# Altium integrated library IV-11_Clock.IntLib: 34 symbols
Pins are listed as number, name and electrical type; pins without a type are passive.

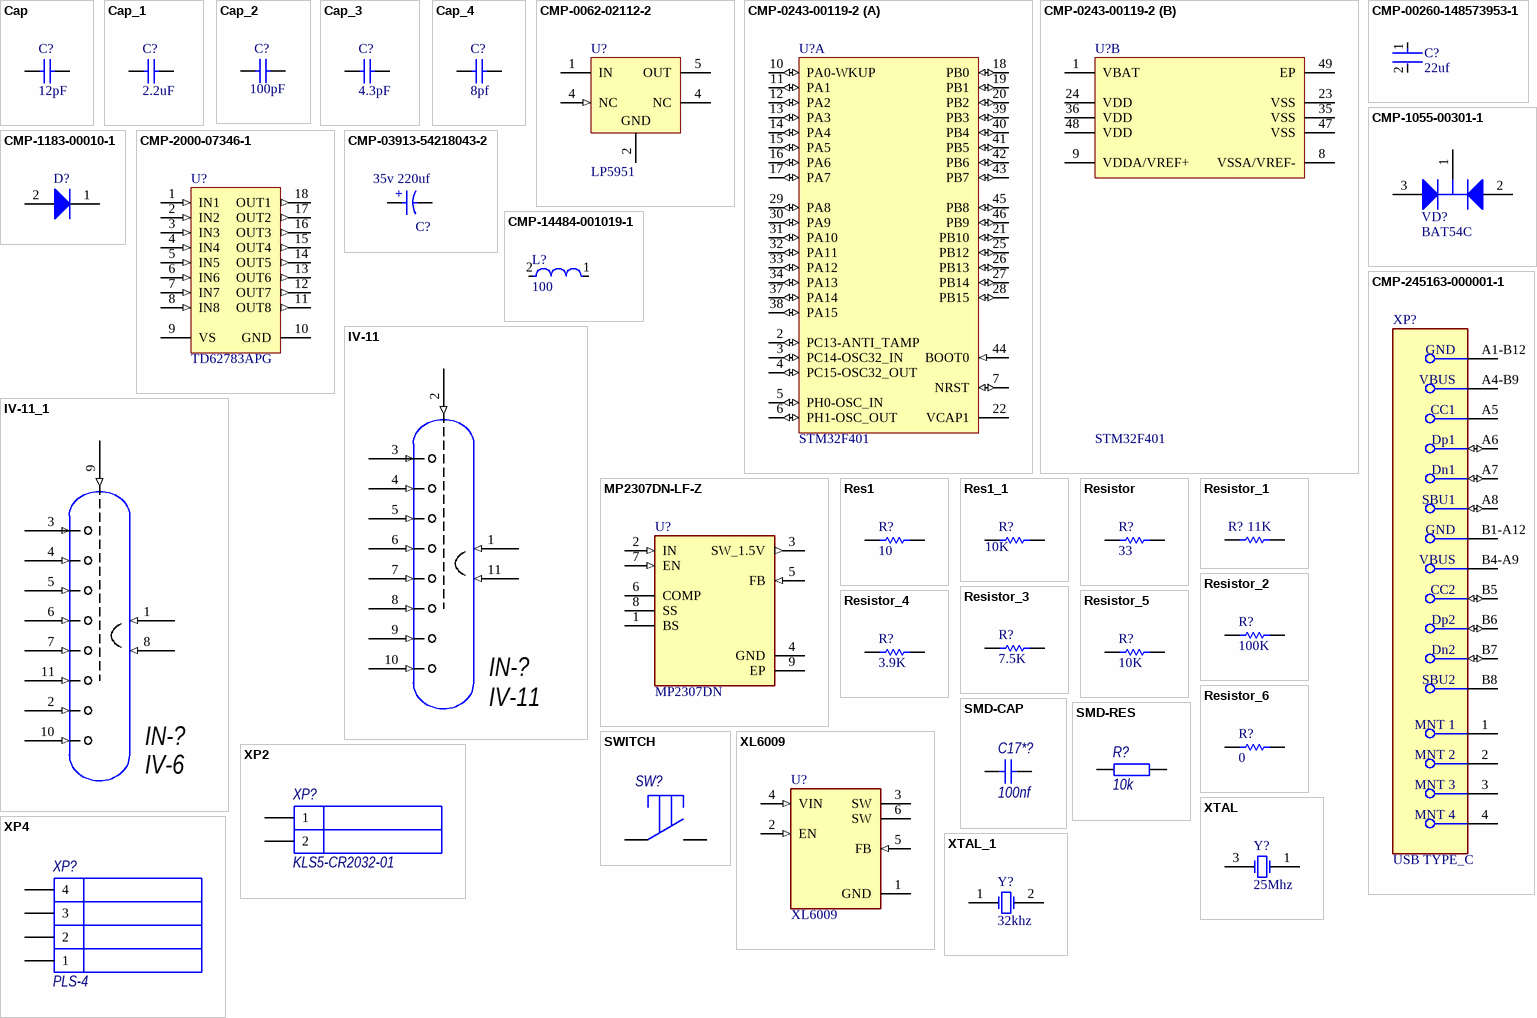
[diagram p0: symbols Cap to XTAL_1]

## Cap
designator C?, comment 12pf
Capacitor; Published: 8-Jun-2000; LatestRevisionDate: 17-Jul-2002; LatestRevisionNote: Re-released for DXP Platform.; PackageReference: RAD-0.3; Publisher: Altium Limited; PackageDescription: Radial Cap, Thru-Hole; 2 Leads; 0.3 in Pin Spacing; Value: 12pF
footprint RAD-0.3 (Radial Cap, Thru-Hole; 2 Leads; 0.3 in Pin Spacing)
simulation model CAP (Capacitor)
signal-integrity model Cap
footprint FP-C0402-BB-MFG
pins: 1, 2

## Cap_1
designator C?, comment 2.2uf
Capacitor; Published: 8-Jun-2000; LatestRevisionDate: 17-Jul-2002; LatestRevisionNote: Re-released for DXP Platform.; PackageReference: RAD-0.3; Publisher: Altium Limited; PackageDescription: Radial Cap, Thru-Hole; 2 Leads; 0.3 in Pin Spacing; Value: 2.2uF
footprint RAD-0.3 (Radial Cap, Thru-Hole; 2 Leads; 0.3 in Pin Spacing)
simulation model CAP (Capacitor)
signal-integrity model Cap
footprint FP-C0402-BB-MFG
pins: 1, 2

## Cap_2
designator C?, comment value 100pF  (hidden comment: 100nf)
Capacitor; Published: 8-Jun-2000; LatestRevisionDate: 17-Jul-2002; LatestRevisionNote: Re-released for DXP Platform.; PackageReference: RAD-0.3; Publisher: Altium Limited; PackageDescription: Radial Cap, Thru-Hole; 2 Leads; 0.3 in Pin Spacing
footprint RAD-0.3 (Radial Cap, Thru-Hole; 2 Leads; 0.3 in Pin Spacing)
simulation model CAP (Capacitor)
signal-integrity model Cap
footprint FP-C0402-BB-MFG
pins: 1, 2

## Cap_3
designator C?, comment value 4.3pF  (hidden comment: 8pf)
Capacitor; Published: 8-Jun-2000; LatestRevisionDate: 17-Jul-2002; LatestRevisionNote: Re-released for DXP Platform.; PackageReference: RAD-0.3; Publisher: Altium Limited; PackageDescription: Radial Cap, Thru-Hole; 2 Leads; 0.3 in Pin Spacing
footprint RAD-0.3 (Radial Cap, Thru-Hole; 2 Leads; 0.3 in Pin Spacing)
simulation model CAP (Capacitor)
signal-integrity model Cap
footprint FP-C0402-BB-MFG
pins: 1, 2

## Cap_4
designator C?, comment 8pf
Capacitor; Published: 8-Jun-2000; LatestRevisionDate: 17-Jul-2002; LatestRevisionNote: Re-released for DXP Platform.; PackageReference: RAD-0.3; Publisher: Altium Limited; PackageDescription: Radial Cap, Thru-Hole; 2 Leads; 0.3 in Pin Spacing
footprint RAD-0.3 (Radial Cap, Thru-Hole; 2 Leads; 0.3 in Pin Spacing)
simulation model CAP (Capacitor)
signal-integrity model Cap
footprint FP-C0402-BB-MFG
pins: 1, 2

## CMP-0062-02112-2
designator U?, comment LP5951
Micropower, 150mA Low-Dropout CMOS Voltage Regulator, 5-pin SOT-23; Manufacturer: National Semiconductor; PackageTopMarking: LKHB*XTT; PowerWise: N; CompType: LDO IC; PackageVersion: revD, Aug-2008; RoHS: N; PinCount: 5; ComponentLink2Description: LP5951 Web Page; DatasheetVersion: Jan-2011; ComponentLink3Description: MF05A Package Page; ComponentLink1URL: http://www.national.com/ds/LP/LP5951.pdf; PackageDescription: Molded SOT-23, .115 x .063 x .040 in Body, 5 Lead, .0375 in Pitch; ComponentLink2URL: http://www.national.com/pf/LP/LP5951.html; ComponentLink1Description: LP5951 Datasheet; PackageReference: MF05A; RevisionNote: Component URLs added; ComponentLink3URL: http://www.national.com/packaging/folders/mf05a.html
footprint MF05A_N (SOT23, 5-Leads, Body 2.9x1.6mm, Pitch 0.95mm, Lead Span 2.8mm, IPC Medium Density)
footprint MF05A_M (SOT23, 5-Leads, Body 2.9x1.6mm, Pitch 0.95mm, Lead Span 2.8mm, IPC Low Density)
footprint MF05A_L (SOT23, 5-Leads, Body 2.9x1.6mm, Pitch 0.95mm, Lead Span 2.8mm, IPC High Density)
footprint FP-SOT23-5LD-PL-1-IPC_A
pins: 1 IN (power), 2 GND (power), 4 NC (in), 4 NC, 5 OUT (power)

## CMP-0243-00119-2
designator U?, comment STM32F401
ARM Cortex-M4 32-bit MCU+FPU, 105 DMIPS, 256 kB Flash, 64 kB Internal RAM, 36 I/Os, 48-pin UFQFPN, -40 to 85 degC, Tray; Manufacturer: STMicroelectronics; PartNumber: STM32F401CCU6; Supply Voltage(Vcc) max (V): 3.6; I/Os (High Current): 36; Internal RAM Size (kB): 64; Operating Frequency(F) (Processor speed) (MHz): 84; FLASH Size (Prog) (kB): 256; Supply Voltage(Vcc) min (V): 1.8; Packing: Tray; PackageReference: UFQFPN48; PackageVersion: Rev. 1, 04/2013; Core: ARM Cortex-M4; ComponentLink1Description: Manufacturer URL; ComponentLink3Description: Package Specification; PackageDescription: 48-Pin Ultra Thin Fine Pitch Quad Flat No-Lead, 7 x 7 x 0.6 mm Body, 0.5 mm Pitch, Exposed Pad; Mounting Technology: Surface Mount; ComponentLink2URL: http://www.st.com/st-web-ui/static/active/en/resource/technical/document/data_brief/DM00071938.pdf; DatasheetVersion: Rev. 1; ComponentLink2Description: Datasheet; ComponentLink1URL: http://www.st.com/web/en/home.html; ComponentLink3URL: http://www.st.com/st-web-ui/static/active/en/resource/technical/document/data_brief/DM00071938.pdf
footprint STM-UFQFPN48_N (QFN, 48-Leads, Body 7.1x7.1mm, Pitch 0.5mm, Thermal Pad 5.6x5.6mm, IPC Medium Density)
footprint STM-UFQFPN48_L (QFN, 48-Leads, Body 7.1x7.1mm, Pitch 0.5mm, Thermal Pad 5.6x5.6mm, IPC High Density)
footprint STM-UFQFPN48_M (QFN, 48-Leads, Body 7.1x7.1mm, Pitch 0.5mm, Thermal Pad 5.6x5.6mm, IPC Low Density)
part A pins: 2 PC13-ANTI_TAMP (io) "PC13-ANTI_TAMP/TAMP_1", 3 PC14-OSC32_IN (io) "PC14-OSC32_IN/OSC32_IN", 4 PC15-OSC32_OUT (io) "PC15-OSC32_OUT/OSC32_OUT", 5 PH0-OSC_IN (io) "PH0-OSC_IN/OSC_IN", 6 PH1-OSC_OUT (io) "PH1-OSC_OUT/OSC_OUT", 7 NRST (io), 10 PA0-WKUP (io) "PA0-WKUP/USART2_CTS,TIM2_CH1/TIM2_ETR,TIM5_CH1/ADC1_0,WKUP", 11 PA1 (io) "PA1/USART2_RTS,TIM2_CH2,TIM5_CH2/ADC1_1", 12 PA2 (io) "PA2/USART2_TX,TIM2_CH3,TIM5_CH3,TIM9_CH1/ADC1_2", 13 PA3 (io) "PA3/USART2_RX,TIM2_CH4,TIM5_CH4,TIM9_CH2/ADC1_3", 14 PA4 (io) "PA4/SPI1_NSS,SPI3_NSS/I2S3_WS,USART2_CK/ADC1_4", 15 PA5 (io) "PA5/SPI1_SCK,TIM2_CH1/TIM2_ETR/ADC1_5", 16 PA6 (io) "PA6/SPI1_MISO,TIM1_BKIN,TIM3_CH1/ADC1_6", 17 PA7 (io) "PA7/SPI1_MOSI,TIM1_CH1N,TIM3_CH2/ADC1_7", 18 PB0 (io) "PB0/TIM1_CH2N,TIM3_CH3/ADC1_8", 19 PB1 (io) "PB1/TIM1_CH3N,TIM3_CH4/ADC1_9", 20 PB2 (io), 21 PB10 (io) "PB10/SPI2_SCK/I2S2_CK,I2C2_SCL,TIM2_CH3", 22 VCAP1 (power), 25 PB12 (io) "PB12/SPI2_NSS/I2S2_WS,I2C2_SMBAL,TIM1_BKIN", 26 PB13 (io) "PB13/SPI2_SCK/I2S2_CK,TIM1_CH1N", 27 PB14 (io) "PB14/SPI2_MISO,I2S2ext_SD,TIM1_CH2N", 28 PB15 (io) "PB15/SPI2_MOSI/I2S2_SD,TIM1_CH3N,RTC_50Hz", 29 PA8 (io) "PA8/I2C3_SCL,USART1_CK,TIM1_CH1,USB_FS_SOF,MCO_1", 30 PA9 (io) "PA9/I2C3_SMBAL,USART1_TX,TIM1_CH2,USB_FS_VBUS", 31 PA10 (io) "PA10/USART1_RX,TIM1_CH3,USB_FS_ID", 32 PA11 (io) "PA11/USART1_CTS,USART6_TX,TIM1_CH4,USB_FS_DM", 33 PA12 (io) "PA12/USART1_RTS,USART6_RX,TIM1_ETR,USB_FS_DP", 34 PA13 (io) "PA13/JTMS-SWDIO", 37 PA14 (io) "PA14/JTCK-SWCLK", 38 PA15 (io) "PA15/SPI1_NSS,SPI3_NSS/I2S3_WS,TIM2_CH1/TIM2_ETR,JTDI", 39 PB3 (io) "PB3/SPI1_SCK,SPI3_SCK/I2S3_CK,I2C2_SDA,TIM2_CH2,JTDO-SWO", 40 PB4 (io) "PB4/SPI1_MISO,SPI3_MISO,I2S3ext_SD,I2C3_SDA,TIM3_CH1,JTRST", 41 PB5 (io) "PB5/SPI1_MOSI,SPI3_MOSI/I2S3_SD,I2C1_SMBAL,TIM3_CH2", 42 PB6 (io) "PB6/I2C1_SCL,USART1_TX,TIM4_CH1", 43 PB7 (io) "PB7/I2C1_SDA,USART1_RX,TIM4_CH2", 44 BOOT0 (in), 45 PB8 (io) "PB8/I2C1_SCL,TIM4_CH3,TIM10_CH1,SDIO_D4", 46 PB9 (io) "PB9/SPI2_NSS/I2S2_WS,I2C1_SDA,TIM4_CH4,TIM11_CH1,SDIO_D5"
part B pins: 1 VBAT (power), 8 VSSA/VREF- (power), 9 VDDA/VREF+ (power), 23 VSS (power), 24 VDD (power), 35 VSS (power), 36 VDD (power), 47 VSS (power), 48 VDD (power), 49 EP (power)

## CMP-00260-148573953-1
designator C?, comment 22uf
GRM32ED70E227ME01L Grm 1210 X7T 220UF 2.5V 20%; NexarPartId: 148573953; Capacitance: 220µF; Material: Ceramic; Max Operating Temperature: 125°C; Width: 2.5mm; Voltage Rating (DC): 2.5V; Height: 2.85mm; Lifecycle Status: Production; Case/Package: 1210; Tolerance: 20%; Dielectric: X7T; Min Operating Temperature: -55°C; Voltage Rating: 2.5V; Thickness: 2.5mm; Length: 3.2mm
footprint FP-GRM32E-0_35-MFG (Grm 1210 X7T 220UF 2.5V 20%)
footprint FP-GRM32E-0_35-IPC_A (Grm 1210 X7T 220UF 2.5V 20%)
footprint FP-GRM32E-0_35-IPC_B (Grm 1210 X7T 220UF 2.5V 20%)
footprint FP-GRM32E-0_35-IPC_C (Grm 1210 X7T 220UF 2.5V 20%)
footprint FP-C0402-BB-MFG
pins: 1, 2

## CMP-1055-00301-1
designator VD?, comment BAT54C
Dual Series Cathode Schottky Barrier Diodes, 3-Pin SC-89, Pb-Free, Tape and Reel; Manufacturer: On Semiconductor; PartNumber: BAT54CXV3T1G; trr Max (ns): 5; IFSM Max (A): 0.6; Configuration: Common Cathode; ComponentLink3Description: Package Specification; ComponentLink2Description: Datasheet; ComponentLink3URL: http://www.onsemi.com/pub_link/Collateral/463C-02.PDF; Mounting Technology: Surface Mount; DatasheetVersion: Rev. 2; PackageVersion: Rev. C, 07/2003; RoHS: TRUE; PackageReference: SC-89-3-463C-02; ComponentLink2URL: http://www.onsemi.cn/pub_link/Collateral/BAT54CXV3-D.PDF; ComponentLink1URL: http://www.onsemi.com/; PackageDescription: 3-Pin Small Outline Transistor, Body 1.6 x 0.85 mm, Pitch 0.5 mm; ComponentLink1Description: Manufacturer URL; Packing: Tape and Reel
footprint ONSC-SC-89-3-463C-02_V (SOT23, 3-Leads, Body 1.6x0.85mm, Pitch 0.5mm)
footprint NXP-SOT23-3_V
pins: 1 A1, 2 A2, 3 K

## CMP-1183-00010-1
designator D?, comment Comment  (value not drawn)
Low VF Schottky Diode, -55 to 150 degC, TSLP-2-17, Green; Manufacturer: Infineon; PartNumber: BAS3005S-02LRH; CT (max): 15Â pF; IF (max): 0.5Â A; VR (max): 30Â V; Green: TRUE; Configuration: Single; VF (max): 500Â mV; ComponentLink1Description: Manufacturer URL; Halogen-free: TRUE; ComponentLink1URL: http://www.infineon.com/; ComponentLink3Description: Package Specification; ComponentLink3URL: http://www.infineon.com/dgdl/TSLP-2-7%2C-17-Package_Overview.pdf?folderId=db3a30431936bc4b011956dca02837a0&fileId=db3a30431936bc4b01195723a67f37c1; ComponentLink2Description: Datasheet; PackageDescription: 2-Pin Thin Small Leadless Package, Body 1 x 0.6 mm, Pitch 0.65 mm; PackageVersion: Apr-13; Mounting Technology: Surface Mount; PackageReference: TSLP-2-17; ComponentLink2URL: http://www.infineon.com/dgdl/bas3005s-02lrh.pdf?folderId=db3a304313d846880113def5812204a1&fileId=db3a30431ed1d7b2011f403b235b4ec0
footprint INF-TSLP-2-17_V (TSLP, 2-Leads, Body 1x0.6mm, Pitch 0.65mm)
footprint FP-95400-MFG
pins: 1 K, 2 A

## CMP-2000-07346-1
designator U?, comment TD62783APG
8-Channel Source Driver, 15 V Input, -20 to 85 degC, 18-Pin DIP, RoHS, Tube; Manufacturer: Allegro Microsystems; Number of Outputs: 8; Current - Output / Channel: 120mA; Other Names: 620-1120; Input Type: Non-Inverting; Current - Peak Output: 500mA; Voltage - Supply: 25V; Product Change Notification: UDN298xAx-TLTBNotice30/Apr/2012; Mounting Type: ThroughHole; Type: HighSide; Mounting Technology: ThroughHole; Package Description: 18-Pin Double In-line Package, Body 22.86 x 6.605 mm, Pitch 2.54 mm; Category: IntegratedCircuits(ICs); Standard Package: 21; On-State Resistance: -; Package / Case: 18-DIP(0.300",7.62mm); Operating Temperature: -20°C~85°C; Datasheet URL: https://datasheet.ciiva.com/19456/1762681-19456617.pdf; Supplier Device Package: 18-DIP; Package Reference: DIP-18; Series: -; Family: PMIC-MOSFET,BridgeDrivers-InternalSwitch; Packaging: Tube; Manufacturer URL: http://www.allegromicro.com/
footprint ALEG-DIP-18 (DIP, 8-Leads, Body 23.35x7.1mm, Pitch 2.54mm)
pins: 1 IN1 (in), 2 IN2 (in), 3 IN3 (in), 4 IN4 (in), 5 IN5 (in), 6 IN6 (in), 7 IN7 (in), 8 IN8 (in), 9 VS (power), 10 GND (power), 11 OUT8 (out), 12 OUT7 (out), 13 OUT6 (out), 14 OUT5 (out), 15 OUT4 (out), 16 OUT3 (out), 17 OUT2 (out), 18 OUT1 (out)

## CMP-03913-54218043-2
designator C?, comment 35v 220uf
Cap, 1800Uf, 25V, Alu Elec, Radial Rohs Compliant: Yes; Capacitance: 1.8mF; Life (Hours): 10000hours; Impedance: 24mΩ; Polarity: Polar; Tolerance: 20%; Leakage Current: 450µA; Pitch: 5mm; Ripple Current: 2.64A; Packaging: Tape & Box (TB); Voltage Rating: 25V; Lead Pitch: 5.0038mm; Diameter: 13mm; Length: 30mm; Case/Package: Radial; Max Operating Temperature: 105°C; Mount: Through Hole; Min Operating Temperature: -40°C; Height - Seated (Max): 31.496mm; RoHS: Compliant
footprint WCAP-ATUL_D13H30
footprint FP-FTD-MFG
pins: 1 P, 2 N
text: +

## CMP-14484-001019-1
designator L?, comment 100
SMD Power Inductors 220uH ±20% 0.17A 4.56Ω; Shielding: Shielded; DC Resistance (DCR): 4.56R; Current Rating: 170mA; Core Material: Ferrite; Saturation Current: 275mA; Self Resonant Frequency: 4MHz; Test Frequency: 100kHz; Width: 0.157inch; Mount: Surface Mount; Max Operating Temperature: 125°C; Length: 0.157inch; RoHS Compliant: Yes; Min Operating Temperature: -25°C; Case/Package: Nonstandard; Resistor Type: Wirewound; Height - Seated (Max): 0.071inch; Tolerance: 20%; Inductance: 220uH; Packaging: Tape and Reel
footprint FP-NR4018-MFG
footprint FP-IHLP-3232DZ-FP_2_413x5-MFG
pins: 1, 2

## CMP-245163-000001-1
designator XP?, comment USB TYPE_C
CONN RCPT USB2.0 TYPEC 5A; Manufacturer Part Number: USB4105-GF-A; Manufacturer: GCT; Voltage Rating: 20V; Is Female: yes; Current Rating: 5/6.25/1.25/0.25A; Number Of Contacts: 16; Conn Orientation: Right Angle; Device Class L1: Connectors; Category: Conn; Lead Free: Yes; RoHS: TRUE; Temperature Range High: +85°C; Digikey Description: CONN RCPT USB2.0 TYPEC 5A; Device Class L3: unset; ComponentLink2Description: Datasheet; Package: 0; Usb Standard: USB 2.0; Device Class L2: USB Connectors; Automotive: No; Temperature Range Low: -40°C; Height: 3.46mm; Temperature: -40°C to +85°C; Contact Material: Gold,Nickel; ComponentLink2URL: https://gct.co/files/drawings/usb4105.pdf; Octopart: https://octopart.com/usb4105-gf-a-gct-106627878
footprint FP-USB4105-GF-A-MFG
pins: 1 MNT 1 (power), 2 MNT 2 (power), 3 MNT 3 (power), 4 MNT 4 (power), A1-B12 GND (power), A4-B9 VBUS (power), A5 CC1 (power), A6 Dp1 (io), A7 Dn1 (io), A8 SBU1 (io), B1-A12 GND (power), B4-A9 VBUS (power), B5 CC2 (io), B6 Dp2 (io), B7 Dn2 (io), B8 SBU2 (power)

## IV-11
designator IN-?
footprint PCBComponent_1 - duplicate
footprint PCBComponent_1
pins: 1 (in), 2 (in), 3 (in), 4 (in), 5 (in), 6 (in), 7 (in), 8 (in), 9 (in), 10 (in), 11 (in)

## IV-11_1
designator IN-?, comment IV-6
footprint PCBComponent_1_2
footprint PCBComponent_1
pins: 1 (in), 2 (in), 3 (in), 4 (in), 5 (in), 6 (in), 7 (in), 8 (in), 9 (in), 10 (in), 11 (in)

## MP2307DN-LF-Z
designator U?, comment MP2307DN
Buck Switching Regulator IC Positive Adjustable 0.925V 1 Output 3A 8-SOIC (0.154, 3.90mm Width) Exposed Pad; MF: Monolithic Power; MP: MP2307DN-LF-Z; Check_prices: https://www.snapeda.com/parts/MP2307DN-LF-Z/Monolithic+Power+Systems+Inc./view-part/?ref=eda; SnapEDA_Link: https://www.snapeda.com/parts/MP2307DN-LF-Z/Monolithic+Power+Systems+Inc./view-part/?ref=snap; Availability: In Stock; Value: *; Price: None; Package: SOIC-8 Monolithic Power; Purchase-URL: https://pricing.snapeda.com/search/part/MP2307DN-LF-Z/?ref=eda
footprint SOIC127P600X170-9N
pins: 1 BS, 2 IN (in), 3 SW_1.5V (out), 4 GND (power), 5 FB (in), 6 COMP, 7 EN (in), 8 SS, 9 EP (power)

## Res1
designator R?, comment value 10  (hidden comment: Comment)
Resistor; Published: 8-Jun-2000; LatestRevisionDate: 17-Jul-2002; LatestRevisionNote: Re-released for DXP Platform.; PackageReference: AXIAL-0.3; Publisher: Altium Limited; PackageDescription: Axial Device, Thru-Hole; 2 Leads; 0.3 in Pin Spacing
footprint AXIAL-0.3 (Axial Device, Thru-Hole; 2 Leads; 0.3 in Pin Spacing)
simulation model RESISTOR (Resistor)
signal-integrity model Res
footprint RESA60-630X240
pins: 1, 2

## Res1_1
designator R?, comment 10k
Resistor; Published: 8-Jun-2000; LatestRevisionDate: 17-Jul-2002; LatestRevisionNote: Re-released for DXP Platform.; PackageReference: AXIAL-0.3; Publisher: Altium Limited; PackageDescription: Axial Device, Thru-Hole; 2 Leads; 0.3 in Pin Spacing; Value: 10K
simulation model RESISTOR (Resistor)
signal-integrity model Res
footprint RESC1005X40X25LL05T05
pins: 1, 2

## Resistor
designator R?, comment value 33  (hidden comment: 33om)
Resistor; TC1: 0; SimulationGenericComponent: True; TC2: 0
simulation model R_Resistor_Default (Model Description)
pins: 1, 2

## Resistor_1
designator R?, comment 11k
Resistor; TC1: 0; SimulationGenericComponent: True; TC2: 0; Value: 11K
simulation model R_Resistor_Default (Model Description)
pins: 1, 2

## Resistor_2
designator R?, comment 100k
Resistor; TC1: 0; SimulationGenericComponent: True; TC2: 0; Value: 100K
simulation model R_Resistor_Default (Model Description)
pins: 1, 2

## Resistor_3
designator R?, comment value 7.5K  (hidden comment: 1k)
Resistor; TC1: 0; SimulationGenericComponent: True; TC2: 0
simulation model R_Resistor_Default (Model Description)
pins: 1, 2

## Resistor_4
designator R?, comment value 3.9K  (hidden comment: 6.2k)
Resistor; TC1: 0; SimulationGenericComponent: True; TC2: 0
simulation model R_Resistor_Default (Model Description)
pins: 1, 2

## Resistor_5
designator R?, comment value 10K  (hidden comment: 8.2k)
Resistor; TC1: 0; SimulationGenericComponent: True; TC2: 0
simulation model R_Resistor_Default (Model Description)
pins: 1, 2

## Resistor_6
designator R?, comment value 0  (hidden comment: Comment)
Resistor; SimulationGenericComponent: True; TC1: 0; TC2: 0
simulation model R_Resistor_Default (Model Description)
footprint RESC1005X40X25LL05T05 (Chip Resistor, 2-Leads, Body 1.05x0.55mm, IPC High Density)
footprint FP-CRCW1206-e3-MFG
pins: 1, 2

## SMD-CAP
designator C17*?, comment 100nf
Capacitor
footprint FP-C0402-BB-MFG
pins: 1, 2

## SMD-RES
designator R?, comment 10k
Resistor
footprint RESISTOR 0402
footprint RESISTOR 0603
footprint RESISTOR 0805
footprint RESISTOR 1206
footprint RESISTOR 2512
footprint RESC1005X40X25LL05T05
pins: 1, 2

## SWITCH
designator SW?, comment Comment  (value not drawn)
Button
footprint FP-1825027-5-0
pins: 1, 2

## XL6009
designator U?
The XL6009 regulator is a wide input range, current mode, DC/DC converter which is capable of generating either positive or negative output voltages.; MF: XLSEMI; Package: TO-263-5L XLSEMI; Price: None; Value: *; SnapEDA_Link: https://www.snapeda.com/parts/XL6009/XLSEMI/view-part/?ref=snap; MP: XL6009; Availability: Not in stock; Check_prices: https://www.snapeda.com/parts/XL6009/XLSEMI/view-part/?ref=eda
footprint DPAK170P1435X465-6N
pins: 1 GND (power), 2 EN (in), 3 SW, 4 VIN (in), 5 FB (in), 6 SW

## XP2
designator XP?, comment KLS5-CR2032-01
Connector
footprint PLS-2
footprint CR2032
pins: 1, 2

## XP4
designator XP?, comment PLS-4
Connector
footprint PLS-4
pins: 1, 2, 3, 4

## XTAL
designator Y?, comment 25Mhz
Crystal Oscillator; Published: 8-Jun-2000; LatestRevisionDate: 17-Jul-2002; LatestRevisionNote: Re-released for DXP Platform.; PackageReference: R38; Publisher: Altium Limited; PackageDescription: Crystal, Thru-Hole; 2 Leads; Body 3.1 x 8.2 mm (Dia.xH)
footprint R38 (Crystal, Thru-Hole; 2 Leads; Body 3.1 x 8.2 mm (Dia.xH))
simulation model XTAL (Spice Subcircuit)
footprint 4-SMD No lead
pins: 1 OSC2, 3 OSC1

## XTAL_1
designator Y?, comment 32khz
Crystal Oscillator; Published: 8-Jun-2000; LatestRevisionDate: 17-Jul-2002; LatestRevisionNote: Re-released for DXP Platform.; PackageReference: R38; Publisher: Altium Limited; PackageDescription: Crystal, Thru-Hole; 2 Leads; Body 3.1 x 8.2 mm (Dia.xH)
footprint R38 (Crystal, Thru-Hole; 2 Leads; Body 3.1 x 8.2 mm (Dia.xH))
simulation model XTAL (Spice Subcircuit)
footprint KX-327NHT
pins: 1 OSC1, 2 OSC2